# EAGLE library part XR-2209 (library exar)
Precision OSCILLATOR
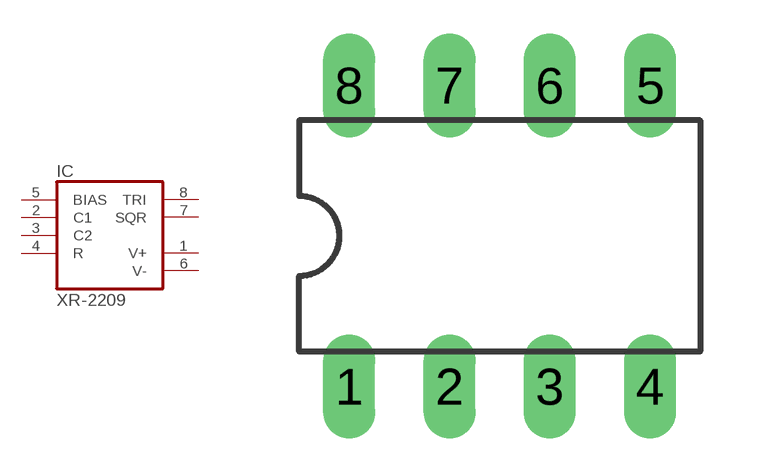
[diagram p64: symbol with the pads of DIL08; footprint DIL08]

Designator prefix IC

## XR-2209 (OC_FARNELL: unknown; OC_NEWARK: unknown)  [DIL08]
1  V+  pwr
2  C1  in
3  C2  in
4  R  in
5  BIAS  in
6  V-  pwr
7  SQR  out
8  TRI  out

## Footprint DIL08 (pad centres in mm)
Dual In Line Package
drill 0.813 long: 1 -3.81,-3.81; 2 -1.27,-3.81; 3 1.27,-3.81; 4 3.81,-3.81; 5 3.81,3.81; 6 1.27,3.81; 7 -1.27,3.81; 8 -3.81,3.81